# Altium schematic symbol library PART-NUMBER.SchLib: 1 symbol
Pins are listed as number, name and electrical type; pins without a type are passive.

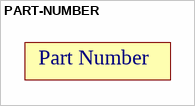
[diagram p0: symbol PART-NUMBER]

## PART-NUMBER
designator PN  (value not drawn)
text: Part Number